# Altium schematic symbol library 1757242.SchLib: 1 symbol
Pins are listed as number, name and electrical type; pins without a type are passive.

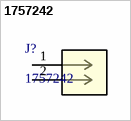
[diagram p0: symbol 1757242]

## 1757242
designator J?
PCB headers, nominal cross section: 2.5 mmÂ², color: green, nominal current: 12 A, rated voltage (III/2): 320 V, contact surface: Tin, contact connection type: Pin, number of potentials: 2, number of rows: 1, number of positions: 2, number of connections: 2, product range: MSTBA 2,5/..-G, pitch: 5.08 mm, mounting: Wave soldering, pin layout: Linear pinning, solder pin [P]: 3.5 mm, number of solder pins per potential: 1, plug-in system: COMBICON MSTB 2,5, Pin connector pattern alignment: Standard, locking: without, mounting: without, type of packaging: packed in cardboard; Manufacturer_Name: Phoenix Contact; Copyright: Copyright (C) 2026 Ultra Librarian. All rights reserved.; Manufacturer_Part_Number: 1757242; RefDes: RefDes; Type: Type
footprint CONN_1759017
pins: 1, 2